# EAGLE library part CAT24C32 (library ICs)
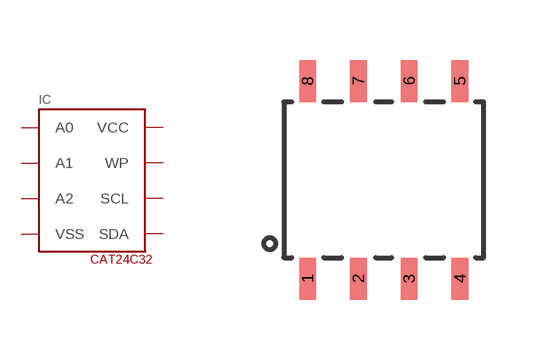
[diagram p6: symbol with the pads of 8SOIC_NOEXP; footprint 8SOIC_NOEXP]

Designator prefix IC

## CAT24C32 (MN: ON Semiconductor; MN_CODE: CAT24C32WI-GT3; ORDER: DIGIKEY; ORDER_CODE: CAT24C32WI-GT3CT-ND)  [8SOIC_NOEXP]
1  A0
2  A1
3  A2
4  VSS
5  SDA
6  SCL
7  WP
8  VCC

## Footprint 8SOIC_NOEXP (pad centres in mm)
smd 0.42 x 1.05: 1 -1.905,-2.475; 2 -0.635,-2.475; 3 0.635,-2.475; 4 1.905,-2.475; 5 1.905,2.475; 6 0.635,2.475; 7 -0.635,2.475; 8 -1.905,2.475